# Altium schematic symbol library bitbots.SchLib: 17 symbols
Pins are listed as number, name and electrical type; pins without a type are passive.

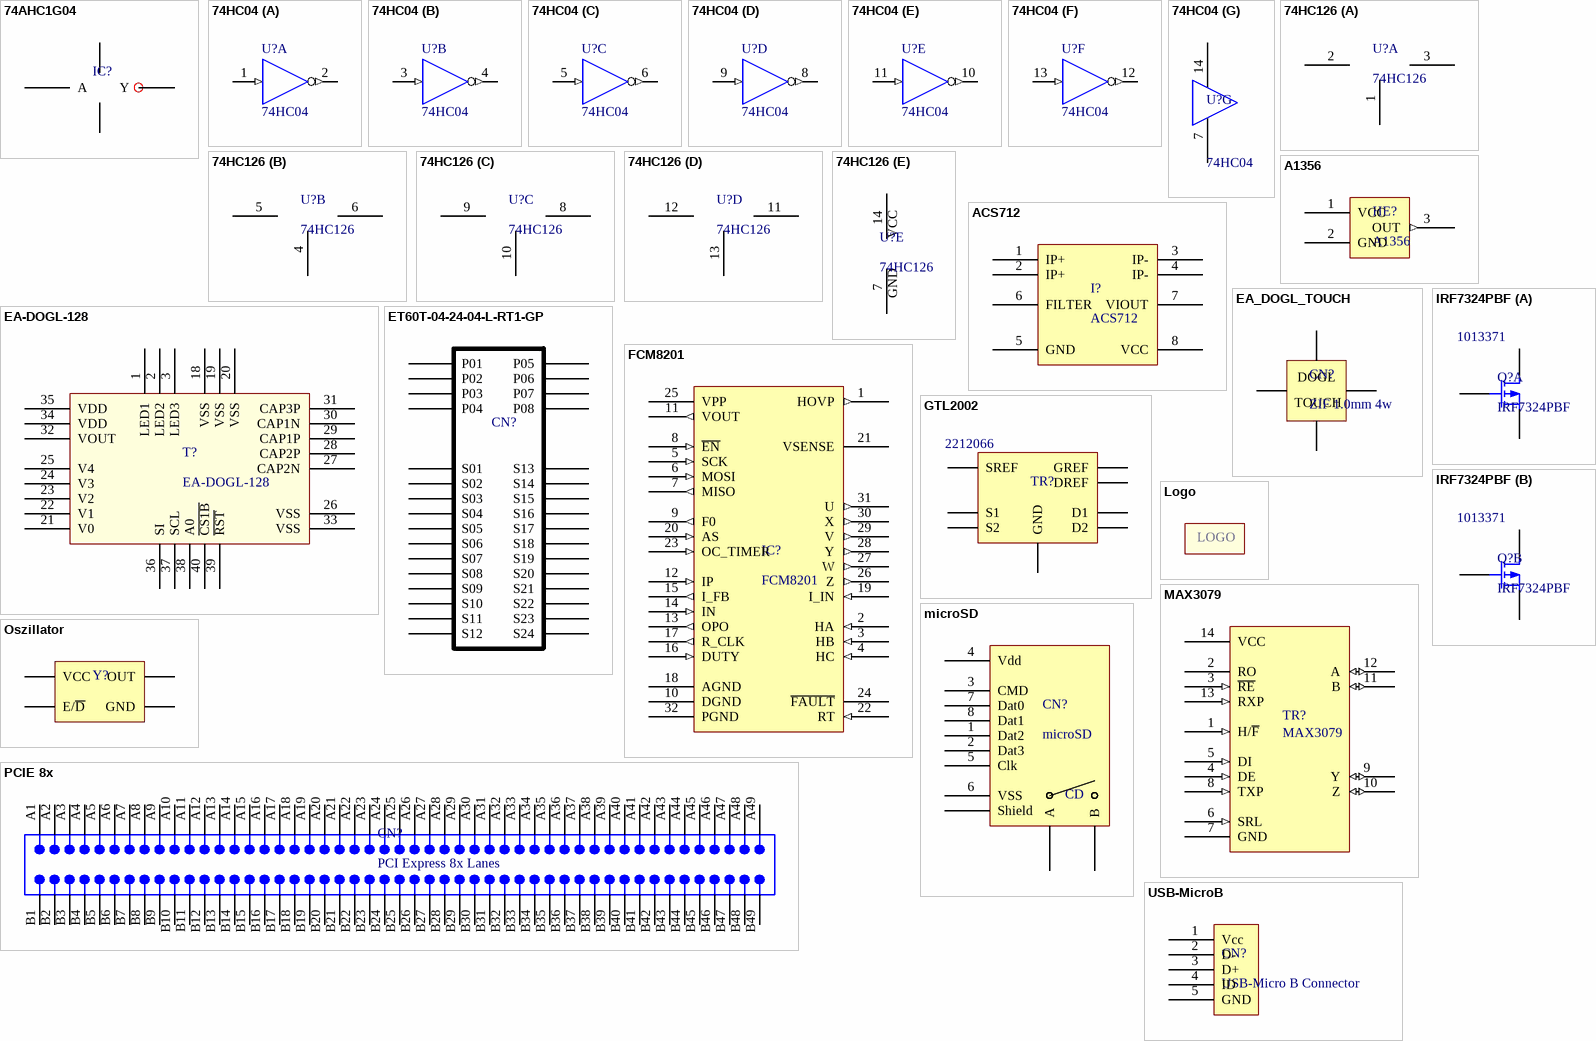
[diagram p0: symbols 74AHC1G04 to USB-MicroB]

## 74AHC1G04
designator IC?  (value not drawn)
Single Logic Inverter; Supplier 1: Farnell; Supplier Part Number 1: 1085239
footprint SOT-353 (SOT23, 5-Leads, Body 2,05x2,13mm, Pitch 0,65mm, IPC Medium Density)
pins: 2 A, 3 GND, 4 Y, 5 VCC

## 74HC04
designator U?
Hex Inverter; Supplier 1: Farnell; Supplier Part Number 1: 2445100
footprint SOIC14 (SOIC, 14-Leads, Body 8,65x3,90mm, Pitch 1,27mm, IPC Medium Density)
part A pins: 1 A (in), 2 Y (out)
part B pins: 3 A (in), 4 Y (out)
part C pins: 5 A (in), 6 Y (out)
part D pins: 8 Y (out), 9 A (in)
part E pins: 10 Y (out), 11 A (in)
part F pins: 12 Y (out), 13 A (in)
part G pins: 7 GND (power), 14 VCC (power)

## 74HC126
designator U?
Quad 3-State Noninverting Buffer; Supplier 1: Farnell; Supplier Part Number 1: 1085233
footprint SOIC14 (SOIC, 14-Leads, Body 8,65x3,90mm, Pitch 1,27mm, IPC Medium Density)
part A pins: 1 OE1, 2 A1, 3 Y1
part B pins: 4 OE2, 5 A2, 6 Y2
part C pins: 8 Y3, 9 A3, 10 OE3
part D pins: 11 Y4, 12 A4, 13 OE4
part E pins: 7 GND (power), 14 VCC (power)

## A1356
designator HE?
Linear Hall-Effect Sensor
footprint 3-Pin SIP
pins: 1 VCC (power), 2 GND (power), 3 OUT (out)

## ACS712
designator I?
Fully Integrated, Hall Effect-Based Linear Current Sensor IC with 2.1 kVRMS Isolation and a Low-Resistance Current Conductor; Supplier 1: Farnell; Supplier Part Number 1: 1329624
footprint SOIC8
pins: 1 IP+, 2 IP+, 3 IP-, 4 IP-, 5 GND, 6 FILTER, 7 VIOUT, 8 VCC

## EA-DOGL-128
designator T?
LED Screen EA-DOGL 128
footprint EA-DOGL-128
pins: 1 LED1, 2 LED2, 3 LED3, 18 VSS, 19 VSS, 20 VSS, 21 V0, 22 V1, 23 V2, 24 V3, 25 V4, 26 VSS, 27 CAP2N, 28 CAP2P, 29 CAP1P, 30 CAP1N, 31 CAP3P, 32 VOUT, 33 VSS, 34 VDD, 35 VDD, 36 SI, 37 SCL, 38 A0, 39 ~{RST}, 40 ~{CS1B}

## EA_DOGL_TOUCH
designator CN?, comment ZIF 1.0mm 4w
ZIF Connector for EA-TOUCH
footprint ZIF-WF100-04S
pins: 1 BOTTOM, 2 LEFT, 3 TOP, 4 RIGHT
text: DOGL; TOUCH

## ET60T-04-24-04-L-RT1-GP
designator CN?, comment 4-24-4-Connector  (value not drawn)
Samtec Connector
footprint ET60T-04-24-04-L-RT1-gp
footprint ET60S-04-24-04-L-VT1-GP
pins: P01, P02, P03, P04, P05, P06, P07, P08, S01, S02, S03, S04, S05, S06, S07, S08, S09, S10, S11, S12, S13, S14, S15, S16, S17, S18, S19, S20, S21, S22, S23, S24

## FCM8201
designator IC?
3-Phase Sinusoidal Brushless DC Motor Controller; Supplier 1: Farnell; Supplier 2: Mouser; Supplier Part Number 1: 2290283; Supplier Part Number 2: 512-FCM8201QY
footprint LQFP-32
pins: 1 HOVP (out), 2 HA (in), 3 HB (in), 4 HC (in), 5 SCK (in), 6 MOSI (in), 7 MISO (out), 8 ~{EN} (in), 9 F0 (out), 10 DGND (power), 11 VOUT (out), 12 IP (in), 13 OPO (out), 14 IN (in), 15 I_FB (out), 16 DUTY (in), 17 R_CLK (out), 18 AGND (power), 19 I_IN (in), 20 AS (in), 21 VSENSE, 22 RT (in), 23 OC_TIMER (in), 24 ~{FAULT} (oc), 25 VPP (power), 26 Z (out), 27 W (out), 28 Y (out), 29 V (out), 30 X (out), 31 U (out), 32 PGND (power)

## GTL2002
designator TR?  Supplier Part Number 1: 2212066  (hidden comment: GTL2002)
2-bit bidirectional lo  w voltage translator; Supplier 1: Farnell
footprint SOIC8
pins: 1 GND, 2 SREF, 3 S1, 4 S2, 5 D2, 6 D1, 7 DREF, 8 GREF

## IRF7324PBF
designator Q?  Supplier Part Number 1: 1013371
Dual-Channel P-Mosfet with default Pins; Supplier 1: Farnell
footprint SOIC8
part A pins: 1 S2, 2 G1, 7 D1, 8 D1
part B pins: 3 S2, 4 G2, 5 D2, 6 D2

## Logo
designator Logo, comment Hamburg Bit-Bots Logo  (value not drawn)  (no BOM)
footprint Logo (Logo of Hamburg Bit-Bots)
text: LOGO

## MAX3079
designator TR?
MAX3079 RS485-Transreceiver; Supplier 1: Farnell
footprint SOIC14 (SOIC, 14-Leads, Body 8,65x3,90mm, Pitch 1,27mm, IPC Medium Density)
pins: 1 H/~{F} (in), 2 RO, 3 ~{RE} (in), 4 DE (in), 5 DI (in), 6 SRL (in), 7 GND (power), 8 TXP (in), 9 Y (io), 10 Z (io), 11 B (io), 12 A (io), 13 RXP (in), 14 VCC (power)

## microSD
designator CN?
Micro SD Card Connector; Supplier 1: Farnell; Supplier Part Number 1: 2427719
footprint Microsd
pins: 1 Dat2, 2 Dat3, 3 CMD, 4 Vdd, 5 Clk, 6 VSS, 7 Dat0, 8 Dat1, A, B, sh Shield
text: CD

## Oszillator
designator Y?, comment FXO-HC736R-16  (value not drawn)
Oscillator with Enable Input; Supplier 1: Farnell; Supplier Part Number 1: 1640997
footprint FXO-HC73
pins: 1 E/~{D}, 2 GND, 3 OUT, 4 VCC

## PCIE 8x
designator CN?, comment PCI Express 8x Lanes
footprint PCI-Express 8x
pins: A1, A2, A3, A4, A5, A6, A7, A8, A9, A10, A11, A12, A13, A14, A15, A16, A17, A18, A19, A20, A21, A22, A23, A24, A25, A26, A27, A28, A29, A30, A31, A32, A33, A34, A35, A36, A37, A38, A39, A40, A41, A42, A43, A44, A45, A46, A47, A48, A49, B1, B2, B3, B4, B5, B6, B7, B8, B9, B10, B11, B12, B13, B14, B15, B16, B17, B18, B19, B20, B21, B22, B23, B24, B25, B26, B27, B28, B29, B30, B31, B32, B33, B34, B35, B36, B37, B38, B39, B40, B41, B42, B43, B44, B45, B46, B47, B48, B49

## USB-MicroB
designator CN?, comment USB-Micro B Connector
footprint USB-MicroB
pins: 1 Vcc (power), 2 D-, 3 D+, 4 ID, 5 GND (power)